# EAGLE library part IV-3 (library RalimTek)
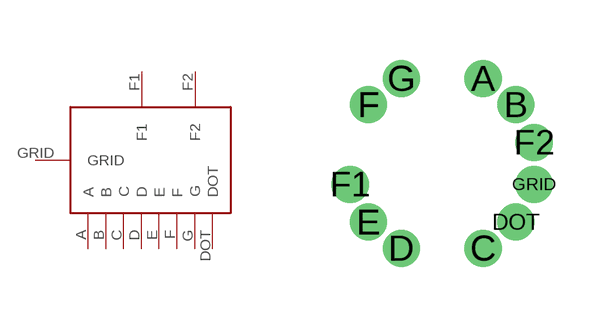
[diagram p36: symbol with the pads of NIXIE-14; footprint NIXIE-14]

Designator prefix -

## IV-3  [NIXIE-14]
A  A
B  B
C  C
D  D
DOT  DOT
E  E
F  F
F1  F1
F2  F2
G  G
GRID  GRID

## Footprint NIXIE-14 (pad centres in mm)
Eagle SCR autogenerated 14 pin Nixie socket
drill 0.42: A 1.024,2.126; B 1.845,1.471; C 1.024,-2.126; D -1.024,-2.126; DOT 1.845,-1.471; E -1.845,-1.471; F -1.845,1.471; F1 -2.3,-0.525; F2 2.3,0.525; G -1.024,2.126; GRID 2.3,-0.525